# EAGLE library part 693063010911 (library Wuerth_Elektronik_eiCan_Communication_Connectors_v2.2)
WR-CRD SD CARD CONNECTOR PUSH & PULL WITH CARD DETECTION 9PINS
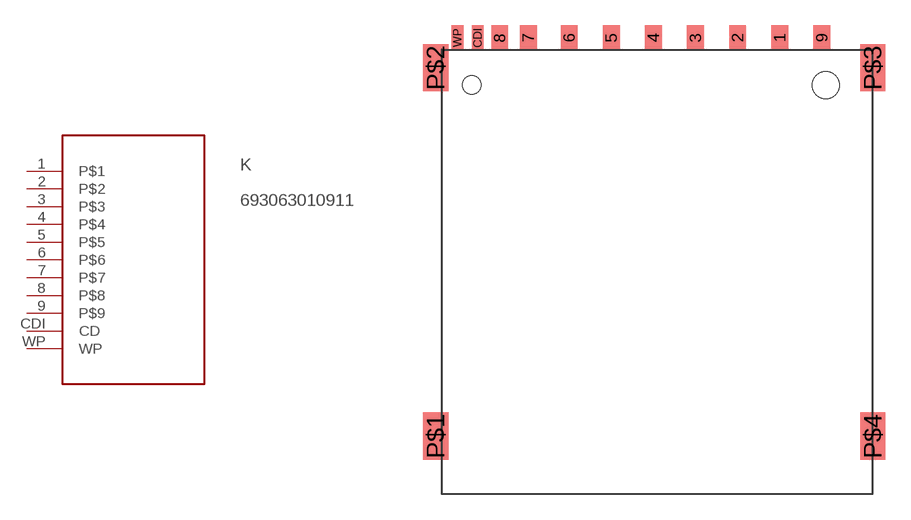
[diagram p32: symbol with the pads of 693063010911; footprint 693063010911]

Designator prefix K

## 693063010911  [693063010911]
1  P$1
2  P$2
3  P$3
4  P$4
5  P$5
6  P$6
7  P$7
8  P$8
9  P$9
CDI  CD
WP  WP

## Footprint 693063010911 (pad centres in mm)
WR-CRD SD CARD CONNECTOR PUSH & PULL WITH CARD DETECTION 9PINS
smd 1 x 1.5: 1 18.275,2.8; 2 15.775,2.8; 3 13.275,2.8; 4 10.775,2.8; 5 8.275,2.8; 6 5.775,2.8; 7 3.35,2.8; 8 1.65,2.8; 9 20.775,2.8
smd 0.7 x 1.5: CDI 0.35,2.8; WP -0.85,2.8
smd 1.5 x 2.8: P$1 -2.15,-20.85; P$2 -2.15,1.025; P$3 23.8,1.025; P$4 23.8,-20.85
hole 1.1 at 0,0
hole 1.6 at 21,0